# Altium schematic symbol library 13A212Y9.SchLib: 1 symbol
Pins are listed as number, name and electrical type; pins without a type are passive.

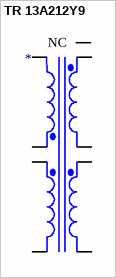
[diagram p0: symbol TR 13A212Y9]

## TR 13A212Y9
designator TR?
footprint TR 13A212Y9 (Footprint not found)
pins: 2 Pri1+, 3 Pri1-, 4 Pri2+, 5 Pri2-, 6 Sec2-, 7 Sec2+, 8 Sec1-, 9 Sec1+, 10 NC